# Altium schematic symbol library Schlib1.SchLib: 4 symbols
Pins are listed as number, name and electrical type; pins without a type are passive.

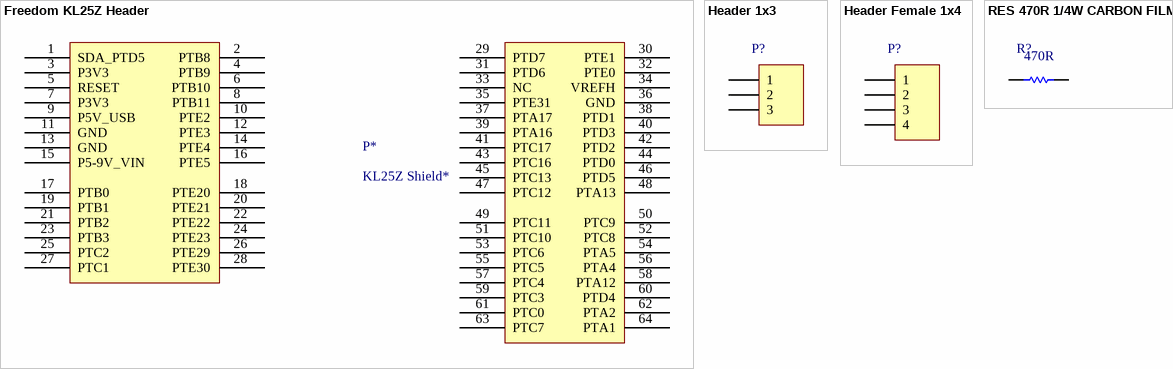
[diagram p0: symbols Freedom KL25Z Header to RES 470R 1/4W CARBON FILM]

## Freedom KL25Z Header
designator P*, comment KL25Z Shield*
FRDM KL25Z Shield
footprint Freedom KL25Z Headerarray (Headerarray KL25Z Shield); pin to pad 1>SDA_PTD5 2>PTB8 3>P3V3 4>PTB9 5>RESET 6>PTB10 7>P3V3 8>PTB11 9>P5V_USB 10>PTE2 11>GND 12>PTE3 13>GND 14>PTE4 15>P5-9V_VIN 16>PTE5 17>PTB0 18>PTE20 19>PTB1 20>PTE21 21>PTB2 22>PTE22 23>PTB3 24>PTE23 25>PTC2 26>PTE29 27>PTC1 28>PTE30 29>PTD7 30>PTE1 31>PTD6 32>PTE0 33>NC 34>VREFH 35>PTE31 36>GND 37>PTA17 38>PTD1 39>PTA16 40>PTD3 41>PTC17 42>PTD2 43>PTC16 44>PTD0 45>PTC13 46>PTD5 47>PTC12 48>PTA13 49>PTC11 50>PTC9 51>PTC10 52>PTC8 53>PTC6 54>PTA5 55>PTC5 56>PTA4 57>PTC4 58>PTA12 59>PTC3 60>PTD4 61>PTC0 62>PTA2 63>PTC7 64>PTA1
pins: 1 SDA_PTD5, 2 PTB8, 3 P3V3, 4 PTB9, 5 RESET, 6 PTB10, 7 P3V3, 8 PTB11, 9 P5V_USB, 10 PTE2, 11 GND, 12 PTE3, 13 GND, 14 PTE4, 15 P5-9V_VIN, 16 PTE5, 17 PTB0, 18 PTE20, 19 PTB1, 20 PTE21, 21 PTB2, 22 PTE22, 23 PTB3, 24 PTE23, 25 PTC2, 26 PTE29, 27 PTC1, 28 PTE30, 29 PTD7, 30 PTE1, 31 PTD6, 32 PTE0, 33 NC, 34 VREFH, 35 PTE31, 36 GND, 37 PTA17, 38 PTD1, 39 PTA16, 40 PTD3, 41 PTC17, 42 PTD2, 43 PTC16, 44 PTD0, 45 PTC13, 46 PTD5, 47 PTC12, 48 PTA13, 49 PTC11, 50 PTC9, 51 PTC10, 52 PTC8, 53 PTC6, 54 PTA5, 55 PTC5, 56 PTA4, 57 PTC4, 58 PTA12, 59 PTC3, 60 PTD4, 61 PTC0, 62 PTA2, 63 PTC7, 64 PTA1

## Header 1x3
designator P?  (value not drawn)
Headers & Wire Housings 40Pin 2mm Spacing Single Row Hdrs, 5pc; Manufacturer: Cromax; Manufacturer Part Number: IMP10327; Mounting Angle: Vertical; Number of Positions: 40 Position; Supplier 1: Mult Comercial; RoHS: RoHS Compliant; Category: Headers & Wire Housings; Stock 1: 14; Pricing 1: 1=1.00, 5=0.20 (BRL); Accessory Type: -; Contact Plating: Gold; Contact Type: -; Number of Rows: 1 Row; Product: Headers; Termination Style: Through Hole; Type: Breakaway; Brand: Cromax; Mounting Style: Straight Pin; Pitch: 2 mm; Row Spacing: -; Contact Gender: Pin (Male); Product Category: Accessories; RoHS - Mouser: Y; Minimum Order Quantity: 1; Reeling: False; ComponentLink1URL: http://loja.multcomercial.com.br/barra-de-pinos-simples-1x40-macho-bmo40-1e.html; ComponentLink1Description: http://loja.multcomercial.com.br/barra-de-pinos-simples-1x40-macho-bmo40-1e.html; Supplier Part Number 1: Barra de Pinos Simples 1x40 Macho BMO40-1E
footprint HDR MALE 1x3 (PinHeader 1x3 TH Pitch 2.54mm)
footprint HDR FEMALE 1x3 (PinHeader 1x3 TH Pitch 2.54mm)
footprint HDR1X3
pins: 1, 2, 3 (power)

## Header Female 1x4
designator P?  (value not drawn)
Headers & Wire Housings 40Pin 2mm Spacing Single Row Hdrs, 5pc; Manufacturer: Cromax; Mounting Angle: Vertical; Number of Positions: 40 Position; Supplier 1: -; Manufacturer Part Number: -; RoHS: RoHS Compliant; Category: Headers & Wire Housings; Stock 1: 14; Pricing 1: 1=1.60, 5=0.32 (BRL); Accessory Type: -; Contact Plating: Gold; Contact Type: -; Number of Rows: 1 Row; Product: Headers; Termination Style: Through Hole; Type: Breakaway; Brand: Cromax; Mounting Style: Straight Pin; Pitch: 2 mm; Row Spacing: -; Contact Gender: Pin (Female); Product Category: Accessories; RoHS - Mouser: Y; Minimum Order Quantity: 1; Reeling: False; ComponentLink1URL: -; ComponentLink1Description: -; Supplier Part Number 1: -
footprint HDR FEMALE 1x4 (Connector; Header; 4 Position)
pins: 1, 2, 3 (power), 4 (power)

## RES 470R 1/4W CARBON FILM
designator R?  Resistance (Ohms): 470R  (hidden comment: *)
RES 470R OHM 1/4W 5% CARBON FILM; Manufacturer: Ty-Ohm; Manufacturer Part Number: CR25; Power (Watts): 0.25W, 1/4W; Temperature Coefficient: 0/ -500ppm/°C; Supplier 1: Mult Comercial; RoHS: RoHS Compliant; Category: Resistors; Stock 1: 617543; Pricing 1: 1=0.20 (BRL); Packaging: Cut Tape (CT); Tolerance: ±5%; Composition: Carbon Film; Features: Flame Retardant Coating, Safety; Operating Temperature: -55°C ~ 155°C; Package / Case: Axial; Supplier Device Package: Axial; Size / Dimension: 0.091" Dia x 0.256" L (2.30mm x 6.50mm); Height: -; Number of Terminations: 2; ComponentLink1URL: http://loja.multcomercial.com.br/resistor-de-1-4-de-watt-cr25-5-de-tolerancia.html; ComponentLink1Description: http://loja.multcomercial.com.br/resistor-de-1-4-de-watt-cr25-5-de-tolerancia.html; Supplier Part Number 1: Resistor de Filme de Carbono 1/4 de Watt CR25 5% de tolerância - 0.22R Ω à 10M Ω
footprint RES 10K 1/4W CARBON FILM
pins: 1, 2